# EAGLE library part PINHD-1X07 (library Tinkercad)
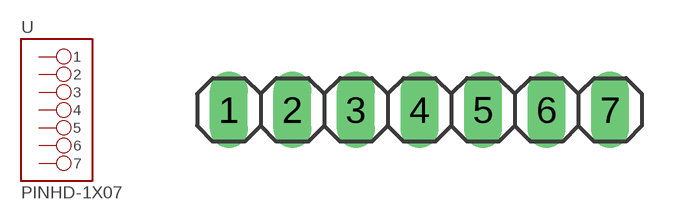
[diagram p24: symbol with the pads of 1X07; footprint 1X07]

Designator prefix -

## PINHD-1X07_1X07M  [1X07]
1  1
2  2
3  3
4  4
5  5
6  6
7  7

## Footprint 1X07 (pad centres in mm)
PIN HEADER
drill 1.016 long: 1 -7.62,0; 2 -5.08,0; 3 -2.54,0; 4 0,0; 5 2.54,0; 6 5.08,0; 7 7.62,0